# EAGLE library part GKPORT (library 029000100  -  gKEagleLibrary)
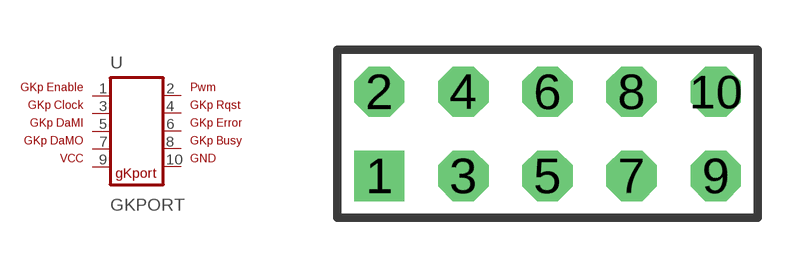
[diagram p9: symbol with the pads of GKPORT; footprint GKPORT]

Designator prefix -

## GKPORT  [GKPORT]
1  EN  pas
2  PWM  pas
3  CK  pas
4  RQ  pas
5  MI  pas
6  ER  pas
7  MO  pas
8  BY  pas
9  VCC  pwr
10  GND  pwr

## Footprint GKPORT (pad centres in mm)
drill 1.016 square: 1 1.27,1.27
drill 1.016 octagon: 2 1.27,3.81; 3 3.81,1.27; 4 3.81,3.81; 5 6.35,1.27; 6 6.35,3.81; 7 8.89,1.27; 8 8.89,3.81; 9 11.43,1.27; 10 11.43,3.81